# EAGLE library part IC_CD4504B (library psas_eagle_library)
CD4504B CMOS Hex Level Shifter
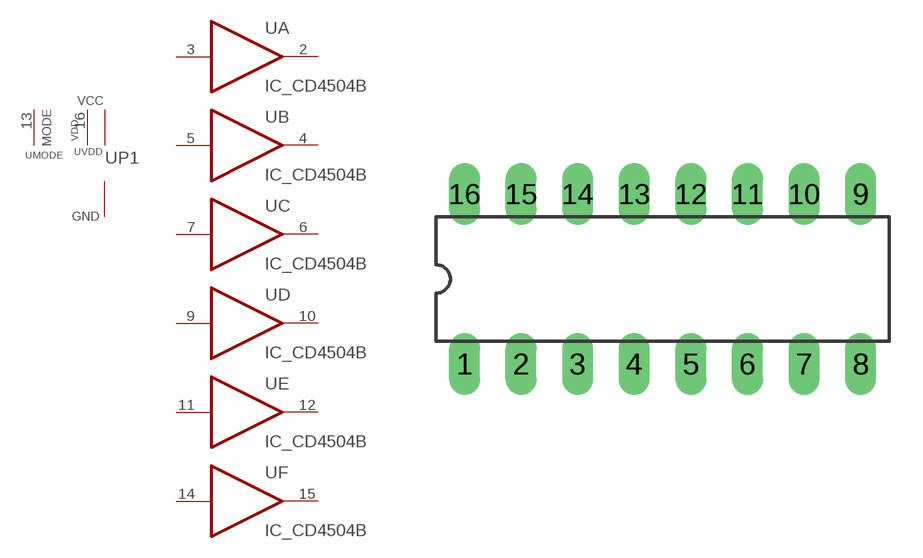
[diagram p7: symbol with the pads of DIL16; footprint DIL16]

Designator prefix U; gates A=BUFFER B=BUFFER C=BUFFER D=BUFFER E=BUFFER F=BUFFER MODE=MODE P1=VCC+GND VDD=VDD

## IC_CD4504BN  [DIL16]
1  P1:VCC  in
2  A:OUT  out
3  A:IN  in
4  B:OUT  out
5  B:IN  in
6  C:OUT  out
7  C:IN  in
8  P1:GND  in
9  D:IN  in
10  D:OUT  out
11  E:IN  in
12  E:OUT  out
13  MODE:MODE  in
14  F:IN  in
15  F:OUT  out
16  VDD:VDD  pwr

## Footprint DIL16 (pad centres in mm)
Standard 16 Pin Dual Inline package
drill 0.889 long: 1 -8.89,-3.81; 2 -6.35,-3.81; 3 -3.81,-3.81; 4 -1.27,-3.81; 5 1.27,-3.81; 6 3.81,-3.81; 7 6.35,-3.81; 8 8.89,-3.81; 9 8.89,3.81; 10 6.35,3.81; 11 3.81,3.81; 12 1.27,3.81; 13 -1.27,3.81; 14 -3.81,3.81; 15 -6.35,3.81; 16 -8.89,3.81